# EAGLE library part S25FL032 (library Spansion)
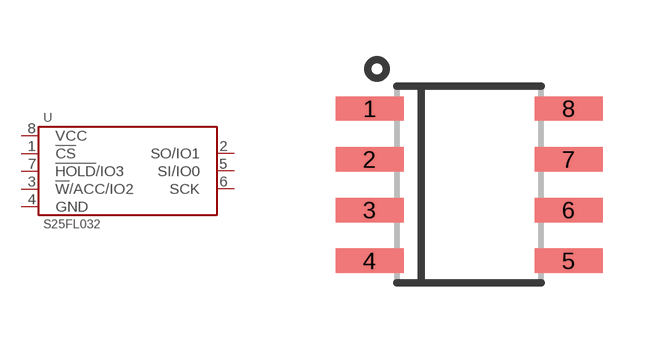
[diagram p0: symbol with the pads of SO-8; footprint SO-8]

Designator prefix U

## S25FL032P0XMFI011  [SO-8]
1  !CS
2  SO/IO1
3  !W!/ACC/IO2
4  GND
5  SI/IO0
6  SCK
7  !HOLD!/IO3
8  VCC

## Footprint SO-8 (pad centres in mm)
smd 1.702 x 0.61: 1 -2.489,1.905; 2 -2.489,0.635; 3 -2.489,-0.635; 4 -2.489,-1.905; 5 2.489,-1.905; 6 2.489,-0.635; 7 2.489,0.635; 8 2.489,1.905